# Altium schematic symbol library Schlib1.SchLib: 7 symbols
Pins are listed as number, name and electrical type; pins without a type are passive.

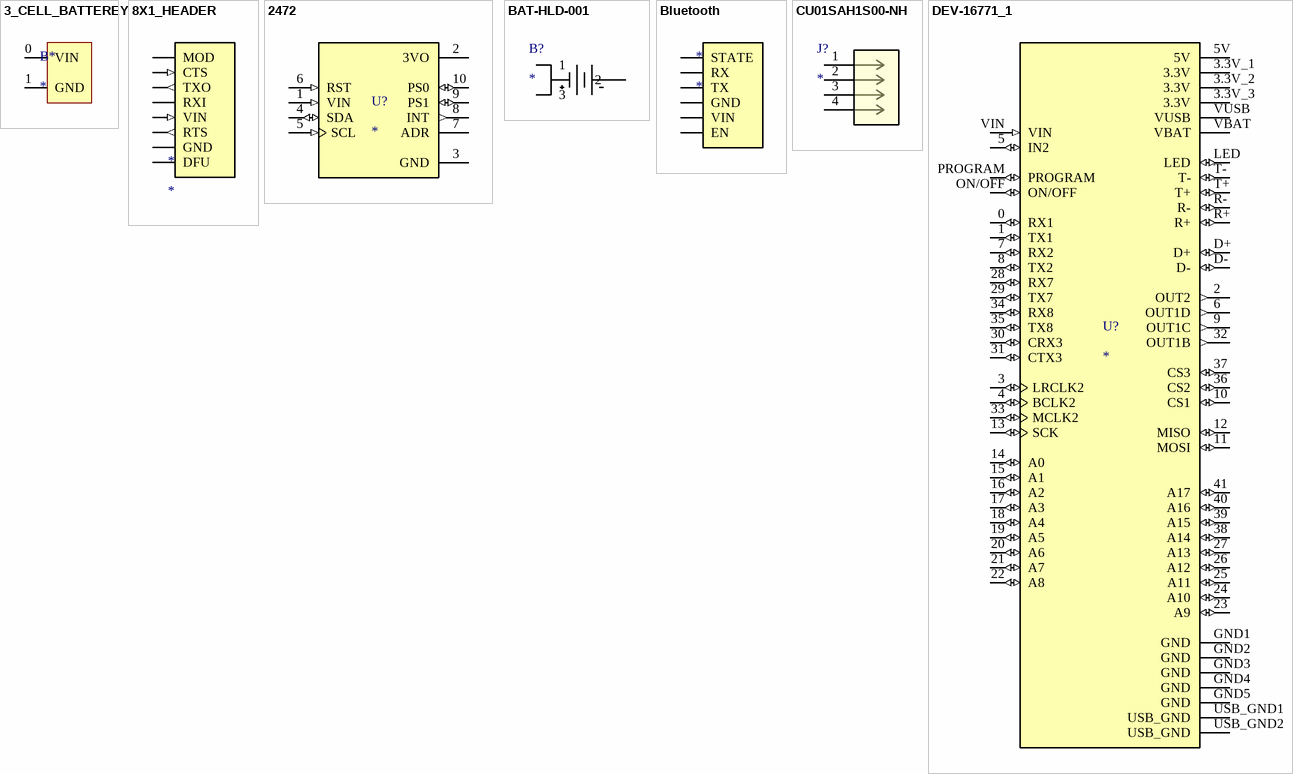
[diagram p0: symbols 3_CELL_BATTEREY to DEV-16771_1]

## 3_CELL_BATTEREY
designator B*
footprint 3_CELL_BATTEREY
pins: 0 VIN, 1 GND

## 8X1_HEADER
designator *
footprint 8X1_HEADER
pins: 0 MOD, 1 CTS (in), 2 TXO (out), 3 RXI, 4 VIN (in), 5 RTS (out), 6 GND, 7 DFU

## 2472
designator U?
Adafruit 9-DOF Absolute Orientation IMU Fusion Breakout - BNO055 | Adafruit Industries 2472; MP: 2472; SnapEDA_Link: https://www.snapeda.com/parts/2472/Adafruit+Industries/view-part/?ref=snap; Package: Non-Standard Adafruit; Value: *; MF: Adafruit; Check_prices: https://www.snapeda.com/parts/2472/Adafruit+Industries/view-part/?ref=eda
footprint MODULE_2472
pins: 1 VIN (in), 2 3VO (power), 3 GND (power), 4 SDA (io), 5 SCL (in), 6 RST (in), 7 ADR, 8 INT (out), 9 PS1 (io), 10 PS0 (io)

## BAT-HLD-001
designator B?
No Description Available; Mfr_Name: Linx Technologies
footprint BATT_HLDR_LNX
pins: 1, 2, 3

## Bluetooth
designator *
footprint 61300611121 (Pin Header, pitch 2.54 mm, THT, Vertical, single row, 6p)
pins: 1 STATE, 2 RX, 3 TX, 4 GND, 5 VIN, 6 EN

## CU01SAH1S00-NH
designator J?
No Description Available; Mfr_Name: CviLux; Type: USB, DVI, HDMI, Connectors; RefDes: RefDes
footprint CONN4_CU01SAH_CVI
pins: 1, 2, 3, 4

## DEV-16771_1
designator U?
RT1062 Teensy 4.1 series ARM® Cortex®-M7 MPU Embedded Evaluation Board; MF: SparkFun Electronics; MP: DEV-16771; SnapEDA_Link: https://www.snapeda.com/parts/DEV-16771/SparkFun+Electronics/view-part/?ref=snap; Package: None; Value: *; Check_prices: https://www.snapeda.com/parts/DEV-16771/SparkFun+Electronics/view-part/?ref=eda
footprint MODULE_DEV-16771
pins: 0 RX1 (io), 1 TX1 (io), 2 OUT2 (out), 3 LRCLK2 (io), 3.3V_1 3.3V (power), 3.3V_2 3.3V (power), 3.3V_3 3.3V (power), 4 BCLK2 (io), 5 IN2 (io), 5V (power), 6 OUT1D (out), 7 RX2 (io), 8 TX2 (io), 9 OUT1C (out), 10 CS1 (io), 11 MOSI (io), 12 MISO (io), 13 SCK (io), 14 A0 (io), 15 A1 (io), 16 A2 (io), 17 A3 (io), 18 A4 (io), 19 A5 (io), 20 A6 (io), 21 A7 (io), 22 A8 (io), 23 A9 (io), 24 A10 (io), 25 A11 (io), 26 A12 (io), 27 A13 (io), 28 RX7 (io), 29 TX7 (io), 30 CRX3 (io), 31 CTX3 (io), 32 OUT1B (out), 33 MCLK2 (io), 34 RX8 (io), 35 TX8 (io), 36 CS2 (io), 37 CS3 (io), 38 A14 (io), 39 A15 (io), 40 A16 (io), 41 A17 (io), D+ (io), D- (io), GND1 GND (power), GND2 GND (power), GND3 GND (power), GND4 GND (power), GND5 GND (power), LED (io), ON/OFF (io), PROGRAM (io), R+ (io), R- (io), T+ (io), T- (io), USB_GND1 USB_GND (power), USB_GND2 USB_GND (power), VBAT, VIN (in), VUSB